# Altium footprint library Smirnov.PcbLib: 63 footprints (part 1 of 4)
Each footprint in its own frame and in the unit in brackets; x right, y up, seen from the top. Pads: shape width x height; smd on the part's side, far side on the other; paste and mask are expansions set on the pad; w line width, h text height; cw(c..) or ccw(c..) is an arc to the next point about the centre after c.
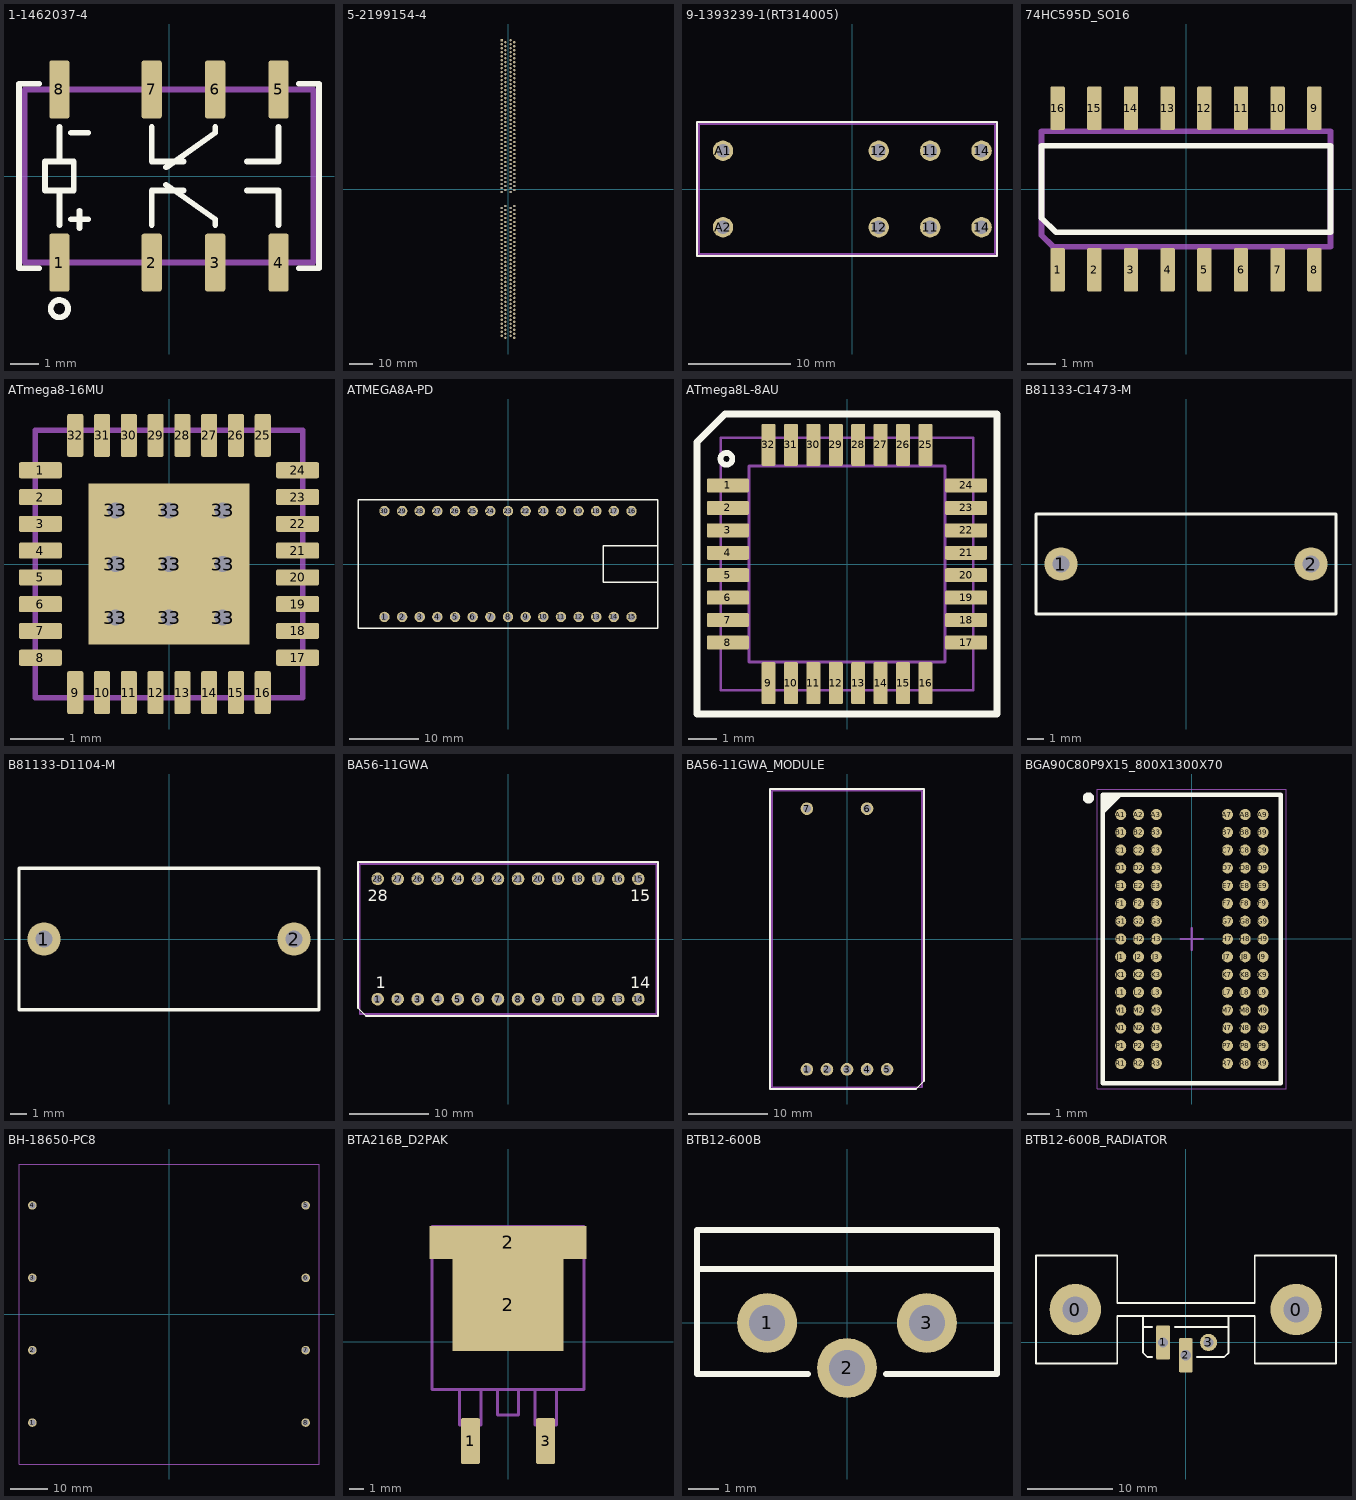
[diagram p0: the footprints below, top view; thin cyan lines are the x and y axes]

## 1-1462037-4 [mm] "SOT-23-3, 2.9x1.3mm"
height 1.2
pads (8):
  rrect20% 0.7x2 smd: 1(-3.8,-3) 2(-0.6,-3) 3(1.6,-3) 4(3.8,-3) 5(3.8,3) 6(1.6,3) 7(-0.6,3) 8(-3.8,3)
Top Overlay:
  circle w0.2: c-3.8,-4.6 r0.3
  lines w0.2: -4.5,-3.2 -5.2,-3.2 -5.2,3.2 -4.5,3.2 ; -3.8,-1.7 -3.8,-0.5 ; -3.8,0.5 -3.8,1.7 ; -3.4,-1.5 -2.8,-1.5 ; -3.4,1.5 -2.8,1.5 ; -3.1,-1.8 -3.1,-1.2 ; -0.6,-1.7 -0.6,-0.5 0.5,-0.5 ; -0.6,1.7 -0.6,0.5 0.5,0.5 ; -0.1,-0.3 1.6,-1.5 1.6,-1.7 ; -0.1,0.3 1.6,1.5 1.6,1.7 ; 2.7,-0.5 3.8,-0.5 3.8,-1.7 ; 2.7,0.5 3.8,0.5 3.8,1.7 ; 4.5,-3.2 5.2,-3.2 5.2,3.2 4.5,3.2 ; -4.3,-0.5 -3.3,-0.5 -3.3,0.5 -4.3,0.5 -4.3,-0.5
Mechanical 13:
  lines w0.2: -5,-3 -5,3 5,3 5,-3 -5,-3

## 5-2199154-4 [mm]
pads (288):
  rect 1x1 / inner round 1 / far side rect 1x1 hole 0.7: 1(-2.7,63.325)
  round 1 hole 0.66: 2(-1.1,62.475) 3(-2.7,61.625) 4(-1.1,60.775) 5(-2.7,59.925) 6(-1.1,59.075) 7(-2.7,58.225) 8(-1.1,57.375) 9(-2.7,56.525) 10(-1.1,55.675) 11(-2.7,54.825) 12(-1.1,53.975) 13(-2.7,53.125) 14(-1.1,52.275) 15(-2.7,51.425) 16(-1.1,50.575) 17(-2.7,49.725) 18(-1.1,48.875) 19(-2.7,48.025) 20(-1.1,47.175) 21(-2.7,46.325) 22(-1.1,45.475) 23(-2.7,44.625) 24(-1.1,43.775) 25(-2.7,42.925) 26(-1.1,42.075) 27(-2.7,41.225) 28(-1.1,40.375) 29(-2.7,39.525) 30(-1.1,38.675) 31(-2.7,37.825) 32(-1.1,36.975) 33(-2.7,36.125) 34(-1.1,35.275) 35(-2.7,34.425) 36(-1.1,33.575) 37(-2.7,32.725) 38(-1.1,31.875) 39(-2.7,31.025) 40(-1.1,30.175) 41(-2.7,29.325) 42(-1.1,28.475) 43(-2.7,27.625) 44(-1.1,26.775) 45(-2.7,25.925) 46(-1.1,25.075) 47(-2.7,24.225) 48(-1.1,23.375) 49(-2.7,22.525) 50(-1.1,21.675) 51(-2.7,20.825) 52(-1.1,19.975) 53(-2.7,19.125) 54(-1.1,18.275) 55(-2.7,17.425) 56(-1.1,16.575) 57(-2.7,15.725) 58(-1.1,14.875) 59(-2.7,14.025) 60(-1.1,13.175) 61(-2.7,12.325) 62(-1.1,11.475) 63(-2.7,10.625) 64(-1.1,9.775) 65(-2.7,8.925) 66(-1.1,8.075) 67(-2.7,7.225) 68(-1.1,6.375) 69(-2.7,5.525) 70(-1.1,4.675) 71(-2.7,3.825) 72(-1.1,2.975) 73(-2.7,2.125) 74(-1.1,1.275) 75(-2.7,0.425) 76(-1.1,-0.425) 77(-2.7,-1.275) 78(-1.1,-7.225) 79(-2.7,-8.075) 80(-1.1,-8.925) 81(-2.7,-9.775) 82(-1.1,-10.625) 83(-2.7,-11.475) 84(-1.1,-12.325) 85(-2.7,-13.175) 86(-1.1,-14.025) 87(-2.7,-14.875) 88(-1.1,-15.725) 89(-2.7,-16.575) 90(-1.1,-17.425) 91(-2.7,-18.275) 92(-1.1,-19.125) 93(-2.7,-19.975) 94(-1.1,-20.825) 95(-2.7,-21.675) 96(-1.1,-22.525) 97(-2.7,-23.375) 98(-1.1,-24.225) 99(-2.7,-25.075) 100(-1.1,-25.925) 101(-2.7,-26.775) 102(-1.1,-27.625) 103(-2.7,-28.475) 104(-1.1,-29.325) 105(-2.7,-30.175) 106(-1.1,-31.025) 107(-2.7,-31.875) 108(-1.1,-32.725) 109(-2.7,-33.575) 110(-1.1,-34.425) 111(-2.7,-35.275) 112(-1.1,-36.125) 113(-2.7,-36.975) 114(-1.1,-37.825) 115(-2.7,-38.675) 116(-1.1,-39.525) 117(-2.7,-40.375) 118(-1.1,-41.225) 119(-2.7,-42.075) 120(-1.1,-42.925) 121(-2.7,-43.775) 122(-1.1,-44.625) 123(-2.7,-45.475) 124(-1.1,-46.325) 125(-2.7,-47.175) 126(-1.1,-48.025) 127(-2.7,-48.875) 128(-1.1,-49.725) 129(-2.7,-50.575) 130(-1.1,-51.425) 131(-2.7,-52.275) 132(-1.1,-53.125) 133(-2.7,-53.975) 134(-1.1,-54.825) 135(-2.7,-55.675) 136(-1.1,-56.525) 137(-2.7,-57.375) 138(-1.1,-58.225) 139(-2.7,-59.075) 140(-1.1,-59.925) 141(-2.7,-60.775) 142(-1.1,-61.625) 143(-2.7,-62.475) 144(-1.1,-63.325) 145(1.1,63.325) 146(2.7,62.475) 147(1.1,61.625) 148(2.7,60.775) 149(1.1,59.925) 150(2.7,59.075) 151(1.1,58.225) 152(2.7,57.375) 153(1.1,56.525) 154(2.7,55.675) 155(1.1,54.825) 156(2.7,53.975) 157(1.1,53.125) 158(2.7,52.275) 159(1.1,51.425) 160(2.7,50.575) 161(1.1,49.725) 162(2.7,48.875) 163(1.1,48.025) 164(2.7,47.175) 165(1.1,46.325) 166(2.7,45.475) 167(1.1,44.625) 168(2.7,43.775) 169(1.1,42.925) 170(2.7,42.075) 171(1.1,41.225) 172(2.7,40.375) 173(1.1,39.525) 174(2.7,38.675) 175(1.1,37.825) 176(2.7,36.975) 177(1.1,36.125) 178(2.7,35.275) 179(1.1,34.425) 180(2.7,33.575) 181(1.1,32.725) 182(2.7,31.875) 183(1.1,31.025) 184(2.7,30.175) 185(1.1,29.325) 186(2.7,28.475) 187(1.1,27.625) 188(2.7,26.775) 189(1.1,25.925) 190(2.7,25.075) 191(1.1,24.225) 192(2.7,23.375) 193(1.1,22.525) 194(2.7,21.675) 195(1.1,20.825) 196(2.7,19.975) 197(1.1,19.125) 198(2.7,18.275) 199(1.1,17.425) 200(2.7,16.575) 201(1.1,15.725) 202(2.7,14.875) 203(1.1,14.025) 204(2.7,13.175) 205(1.1,12.325) 206(2.7,11.475) 207(1.1,10.625) 208(2.7,9.775) 209(1.1,8.925) 210(2.7,8.075) 211(1.1,7.225) 212(2.7,6.375) 213(1.1,5.525) 214(2.7,4.675) 215(1.1,3.825) 216(2.7,2.975) 217(1.1,2.125) 218(2.7,1.275) 219(1.1,0.425) 220(2.7,-0.425) 221(1.1,-1.275) 222(2.7,-7.225) 223(1.1,-8.075) 224(2.7,-8.925) 225(1.1,-9.775) 226(2.7,-10.625) 227(1.1,-11.475) 228(2.7,-12.325) 229(1.1,-13.175) 230(2.7,-14.025) 231(1.1,-14.875) 232(2.7,-15.725) 233(1.1,-16.575) 234(2.7,-17.425) 235(1.1,-18.275) 236(2.7,-19.125) 237(1.1,-19.975) 238(2.7,-20.825) 239(1.1,-21.675) 240(2.7,-22.525) 241(1.1,-23.375) 242(2.7,-24.225) 243(1.1,-25.075) 244(2.7,-25.925) 245(1.1,-26.775) 246(2.7,-27.625) 247(1.1,-28.475) 248(2.7,-29.325) 249(1.1,-30.175) 250(2.7,-31.025) 251(1.1,-31.875) 252(2.7,-32.725) 253(1.1,-33.575) 254(2.7,-34.425) 255(1.1,-35.275) 256(2.7,-36.125) 257(1.1,-36.975) 258(2.7,-37.825) 259(1.1,-38.675) 260(2.7,-39.525) 261(1.1,-40.375) 262(2.7,-41.225) 263(1.1,-42.075) 264(2.7,-42.925) 265(1.1,-43.775) 266(2.7,-44.625) 267(1.1,-45.475) 268(2.7,-46.325) 269(1.1,-47.175) 270(2.7,-48.025) 271(1.1,-48.875) 272(2.7,-49.725) 273(1.1,-50.575) 274(2.7,-51.425) 275(1.1,-52.275) 276(2.7,-53.125) 277(1.1,-53.975) 278(2.7,-54.825) 279(1.1,-55.675) 280(2.7,-56.525) 281(1.1,-57.375) 282(2.7,-58.225) 283(1.1,-59.075) 284(2.7,-59.925) 285(1.1,-60.775) 286(2.7,-61.625) 287(1.1,-62.475) 288(2.7,-63.325)

## 9-1393239-1(RT314005) [mm]
pads (8):
  round 2 hole 1.3: 11(7.63,-3.75) 11(7.63,3.75) 12(2.59,-3.75) 12(2.59,3.75) 14(12.67,-3.75) 14(12.67,3.75) A1(-12.67,3.75) A2(-12.67,-3.75)
Top Overlay:
  lines w0.2: -15.22,-6.55 14.18,-6.55 14.18,6.55 -15.22,6.55 -15.22,-6.55
Mechanical 13:
  lines w0.2: -15.02,-6.35 -15.02,6.35 13.98,6.35 13.98,-6.35 -15.02,-6.35
3D body "c-9-1393239-1-c-3d.stp": height 15.7, standoff -3.6, extent -15.02,-6.35 13.98,6.35

## 74HC595D_SO16 [mm]
pads (16):
  rrect20% 0.5x1.5 smd: 1(-4.445,-2.8) 2(-3.175,-2.8) 3(-1.905,-2.8) 4(-0.635,-2.8) 5(0.635,-2.8) 6(1.905,-2.8) 7(3.175,-2.8) 8(4.445,-2.8) 9(4.445,2.8) 10(3.175,2.8) 11(1.905,2.8) 12(0.635,2.8) 13(-0.635,2.8) 14(-1.905,2.8) 15(-3.175,2.8) 16(-4.445,2.8)
Top Overlay:
  lines w0.2: -5,-1 -5,1.5 5,1.5 5,-1.5 -4.5,-1.5 -5,-1
Mechanical 13:
  lines w0.2: -5,-1.6 -4.6,-2 5,-2 5,2 -5,2 -5,-1.6

## ATmega8-16MU [mm]
pads (42):
  rrect20% 0.8x0.3 smd mask+0.05: 1(-2.4,1.75) 2(-2.4,1.25) 3(-2.4,0.75) 4(-2.4,0.25) 5(-2.4,-0.25) 6(-2.4,-0.75) 7(-2.4,-1.25) 8(-2.4,-1.75) 17(2.4,-1.75) 18(2.4,-1.25) 19(2.4,-0.75) 20(2.4,-0.25) 21(2.4,0.25) 22(2.4,0.75) 23(2.4,1.25) 24(2.4,1.75)
  rrect20% 0.3x0.8 smd mask+0.05: 9(-1.75,-2.4) 10(-1.25,-2.4) 11(-0.75,-2.4) 12(-0.25,-2.4) 13(0.25,-2.4) 14(0.75,-2.4) 15(1.25,-2.4) 16(1.75,-2.4) 25(1.75,2.4) 26(1.25,2.4) 27(0.75,2.4) 28(0.25,2.4) 29(-0.25,2.4) 30(-0.75,2.4) 31(-1.25,2.4) 32(-1.75,2.4)
  round 0.7 hole 0.3: 33(-1,-1) 33(-1,0) 33(-1,1) 33(0,-1) 33(0,0) 33(0,1) 33(1,-1) 33(1,0) 33(1,1)
  rect 3x3 smd mask+0.05: 33(0,0)
Mechanical 13:
  lines w0.1: -2.5,-2.5 2.5,-2.5 2.5,2.5 -2.5,2.5 -2.5,-2.5

## ATMEGA8A-PD [mm] "microcontroller"
height 7.9
pads (30):
  round 1.5 hole 1: 1(-17.78,-7.62) 2(-15.24,-7.62) 3(-12.7,-7.62) 4(-10.16,-7.62) 5(-7.62,-7.62) 6(-5.08,-7.62) 7(-2.54,-7.62) 8(0,-7.62) 9(2.54,-7.62) 10(5.08,-7.62) 11(7.62,-7.62) 12(10.16,-7.62) 13(12.7,-7.62) 14(15.24,-7.62) 15(17.78,-7.62) 16(17.78,7.62) 17(15.24,7.62) 18(12.7,7.62) 19(10.16,7.62) 20(7.62,7.62) 21(5.08,7.62) 22(2.54,7.62) 23(0,7.62) 24(-2.54,7.62) 25(-5.08,7.62) 26(-7.62,7.62) 27(-10.16,7.62) 28(-12.7,7.62) 29(-15.24,7.62) 30(-17.78,7.62)
Top Overlay:
  lines w0.2: 21.55,-2.6 13.7,-2.6 13.7,2.6 21.55,2.6 ; -21.59,-9.271 -21.59,9.271 21.59,9.271 21.59,-9.271 -21.59,-9.271
3D body "Arduino NanoV3 + Female Headers.step": height 20.8, standoff -2.95, extent -21.8,-8.95 23.3,8.95

## ATmega8L-8AU [mm]
pads (32):
  rrect20% 1.5x0.5 smd mask+0.05: 1(-4.25,2.8) 2(-4.25,2) 3(-4.25,1.2) 4(-4.25,0.4) 5(-4.25,-0.4) 6(-4.25,-1.2) 7(-4.25,-2) 8(-4.25,-2.8) 17(4.25,-2.8) 18(4.25,-2) 19(4.25,-1.2) 20(4.25,-0.4) 21(4.25,0.4) 22(4.25,1.2) 23(4.25,2) 24(4.25,2.8)
  rrect20% 0.5x1.5 smd mask+0.05: 9(-2.8,-4.25) 10(-2,-4.25) 11(-1.2,-4.25) 12(-0.4,-4.25) 13(0.4,-4.25) 14(1.2,-4.25) 15(2,-4.25) 16(2.8,-4.25) 25(2.8,4.25) 26(2,4.25) 27(1.2,4.25) 28(0.4,4.25) 29(-0.4,4.25) 30(-1.2,4.25) 31(-2,4.25) 32(-2.8,4.25)
Top Overlay:
  circle w0.2: c-4.3,3.75 r0.212
  lines w0.25: -5.35,-5.35 5.35,-5.35 5.35,5.35 -4.35,5.35 -5.35,4.35 -5.35,-5.35
Mechanical 13:
  lines w0.1: -4.5,-4.5 -4.5,4.5 4.5,4.5 4.5,-4.5 -4.5,-4.5 ; -3.5,-3.5 -3.5,3.5 3.5,3.5 3.5,-3.5 -3.5,-3.5

## B81133-C1473-M [mm]
pads (2):
  round 2 hole 1: 1(-7.5,0) 2(7.5,0)
Top Overlay:
  lines w0.2: -9,-3 -9,3 9,3 9,-3 -9,-3

## B81133-D1104-M [mm]
pads (2):
  round 2 hole 1: 1(-7.5,0) 2(7.5,0)
Top Overlay:
  lines w0.2: -9,-4.25 -9,4.25 9,4.25 9,-4.25 -9,-4.25

## BA56-11GWA [mm]
pads (28):
  round 1.6 hole 1: 1(-16.51,-7.62) 2(-13.97,-7.62) 3(-11.43,-7.62) 4(-8.89,-7.62) 5(-6.35,-7.62) 6(-3.81,-7.62) 7(-1.27,-7.62) 8(1.27,-7.62) 9(3.81,-7.62) 10(6.35,-7.62) 11(8.89,-7.62) 12(11.43,-7.62) 13(13.97,-7.62) 14(16.51,-7.62) 15(16.51,7.62) 16(13.97,7.62) 17(11.43,7.62) 18(8.89,7.62) 19(6.35,7.62) 20(3.81,7.62) 21(1.27,7.62) 22(-1.27,7.62) 23(-3.81,7.62) 24(-6.35,7.62) 25(-8.89,7.62) 26(-11.43,7.62) 27(-13.97,7.62) 28(-16.51,7.62)
Top Overlay:
  lines w0.2: -19,-8.75 -19,9.75 19,9.75 19,-9.75 -18,-9.75 -19,-8.75
  text "1" at -16.75,-6.25 h1.5
  text "14" at 15.5,-6.25 h1.5
  text "15" at 15.5,4.75 h1.5
  text "28" at -17.75,4.75 h1.5
Mechanical 13:
  lines w0.2: -18.8,-9.5 18.8,-9.5 18.8,9.5 -18.8,9.5 -18.8,-9.5

## BA56-11GWA_MODULE [mm]
pads (7):
  round 1.6 hole 1: 1(-5.08,-16.51) 2(-2.54,-16.51) 3(0,-16.51) 4(2.54,-16.51) 5(5.08,-16.51) 6(2.54,16.51) 7(-5.08,16.51)
Top Overlay:
  lines w0.2: -9.75,-19 -9.75,19 9.75,19 9.75,-18 8.75,-19 -9.75,-19
Mechanical 13:
  lines w0.2: -9.5,-18.8 9.5,-18.8 9.5,18.8 -9.5,18.8 -9.5,-18.8

## BGA90C80P9X15_800X1300X70 [mm] "BGA, 90-Leads, Body 8,00x13,00mmx0,70mm, Pitch 0,80mm"
height 0.7
pads (90):
  round 0.5 smd: A1(-3.2,5.6) A2(-2.4,5.6) A3(-1.6,5.6) A7(1.6,5.6) A8(2.4,5.6) A9(3.2,5.6) B1(-3.2,4.8) B2(-2.4,4.8) B3(-1.6,4.8) B7(1.6,4.8) B8(2.4,4.8) B9(3.2,4.8) C1(-3.2,4) C2(-2.4,4) C3(-1.6,4) C7(1.6,4) C8(2.4,4) C9(3.2,4) D1(-3.2,3.2) D2(-2.4,3.2) D3(-1.6,3.2) D7(1.6,3.2) D8(2.4,3.2) D9(3.2,3.2) E1(-3.2,2.4) E2(-2.4,2.4) E3(-1.6,2.4) E7(1.6,2.4) E8(2.4,2.4) E9(3.2,2.4) F1(-3.2,1.6) F2(-2.4,1.6) F3(-1.6,1.6) F7(1.6,1.6) F8(2.4,1.6) F9(3.2,1.6) G1(-3.2,0.8) G2(-2.4,0.8) G3(-1.6,0.8) G7(1.6,0.8) G8(2.4,0.8) G9(3.2,0.8) H1(-3.2,0) H2(-2.4,0) H3(-1.6,0) H7(1.6,0) H8(2.4,0) H9(3.2,0) J1(-3.2,-0.8) J2(-2.4,-0.8) J3(-1.6,-0.8) J7(1.6,-0.8) J8(2.4,-0.8) J9(3.2,-0.8) K1(-3.2,-1.6) K2(-2.4,-1.6) K3(-1.6,-1.6) K7(1.6,-1.6) K8(2.4,-1.6) K9(3.2,-1.6) L1(-3.2,-2.4) L2(-2.4,-2.4) L3(-1.6,-2.4) L7(1.6,-2.4) L8(2.4,-2.4) L9(3.2,-2.4) M1(-3.2,-3.2) M2(-2.4,-3.2) M3(-1.6,-3.2) M7(1.6,-3.2) M8(2.4,-3.2) M9(3.2,-3.2) N1(-3.2,-4) N2(-2.4,-4) N3(-1.6,-4) N7(1.6,-4) N8(2.4,-4) N9(3.2,-4) P1(-3.2,-4.8) P2(-2.4,-4.8) P3(-1.6,-4.8) P7(1.6,-4.8) P8(2.4,-4.8) P9(3.2,-4.8) R1(-3.2,-5.6) R2(-2.4,-5.6) R3(-1.6,-5.6) R7(1.6,-5.6) R8(2.4,-5.6) R9(3.2,-5.6)
Top Overlay:
  circle w0.25: c-4.65,6.35 r0.125
  region: -3.219,6.5 -4,5.719 -4,6.5
  lines w0.2: -4,5.719 -3.219,6.5 ; -4,-6.5 4,-6.5 4,6.5 -4,6.5 -4,-6.5
Mechanical 13:
  lines w0.1: -4,-6.5 4,-6.5 4,6.5 -4,6.5 -4,-6.5
Mechanical 15:
  lines w0.05: -4.25,-6.75 4.25,-6.75 4.25,6.75 -4.25,6.75 -4.25,-6.75
  lines w0.1: -0.5,0 0.5,0 ; 0,-0.5 0,0.5
3D body: height 0.7, standoff 0.12, extent -4,-6.5 4,6.5

## BH-18650-PC8 [mm] "BH-18650-PC8"
pads (8):
  round 2.3 hole 1.6: 1(-36.45,-28.95) 2(-36.45,-9.65) 3(-36.45,9.65) 4(-36.45,28.95) 5(36.45,28.95) 6(36.45,9.65) 7(36.45,-9.65) 8(36.45,-28.95)
Mechanical 13:
  lines w0.2: -40,-40 40,-40 40,40 -40,40 -40,-40

## BTA216B_D2PAK [mm]
pads (4):
  rrect20% 1.3x3.1 smd: 1(-2.54,-6.712) 3(2.54,-6.712)
  rect 7.5x6.2 smd: 2(0,2.488)
  rect 10.6x2.25 smd: 2(0,6.713)
Mechanical 13:
  lines w0.2: -5.15,6.188 5.15,6.188 ; -3.265,-3.212 -3.265,-5.612 -1.815,-5.612 -1.815,-3.212 ; -2.99,-5.612 -2.99,-8.012 -2.09,-8.012 -2.09,-5.612 ; -0.725,-3.212 -0.725,-4.962 0.725,-4.962 0.725,-3.212 ; 1.815,-3.212 1.815,-5.612 3.265,-5.612 3.265,-3.212 ; 2.09,-5.612 2.09,-8.012 2.99,-8.012 2.99,-5.612 ; -5.15,-3.212 -5.15,7.788 5.15,7.788 5.15,-3.212 -5.15,-3.212
3D body "User Library-DPAK.STEP": height 4.77, standoff -0.25, extent -5.08,-7.916 5.08,7.348

## BTB12-600B [mm]
pads (3):
  round 2 hole 1.2: 1(-2.66,0) 2(0,-1.5) 3(2.66,0)
Top Overlay:
  lines w0.2: -5,1.8 5,1.8 ; -1.3,-1.7 -5,-1.7 -5,3.1 5,3.1 5,-1.7 1.3,-1.7

## BTB12-600B_RADIATOR [mm]
pads (5):
  round 6 hole 3: 0(-12.9,3.85) 0(12.9,3.85)
  rrect20% 1.6x4 hole 1.2: 1(-2.66,0) 2(0,-1.5)
  round 2 hole 1.2: 3(2.66,0)
Top Overlay:
  lines w0.2: -5,1.8 -3.95,1.8 ; -3.95,-1.7 -4.5,-1.7 -5,-1.2 -5,3.1 5,3.1 5,-1.2 4.5,-1.7 1.3,-1.7 ; -1.25,1.8 5,1.8 ; 8,3.1 -8,3.1 -8,-2.45 -17.5,-2.45 -17.5,10.15 -8,10.15 -8,4.6 8,4.6 ; 8.05,3.1 8.05,-2.45 17.55,-2.45 17.55,10.15 8.05,10.15 8.05,4.6